# EAGLE library part STM32F405RGT6_BOTTOM (library MyCMOSsensor)
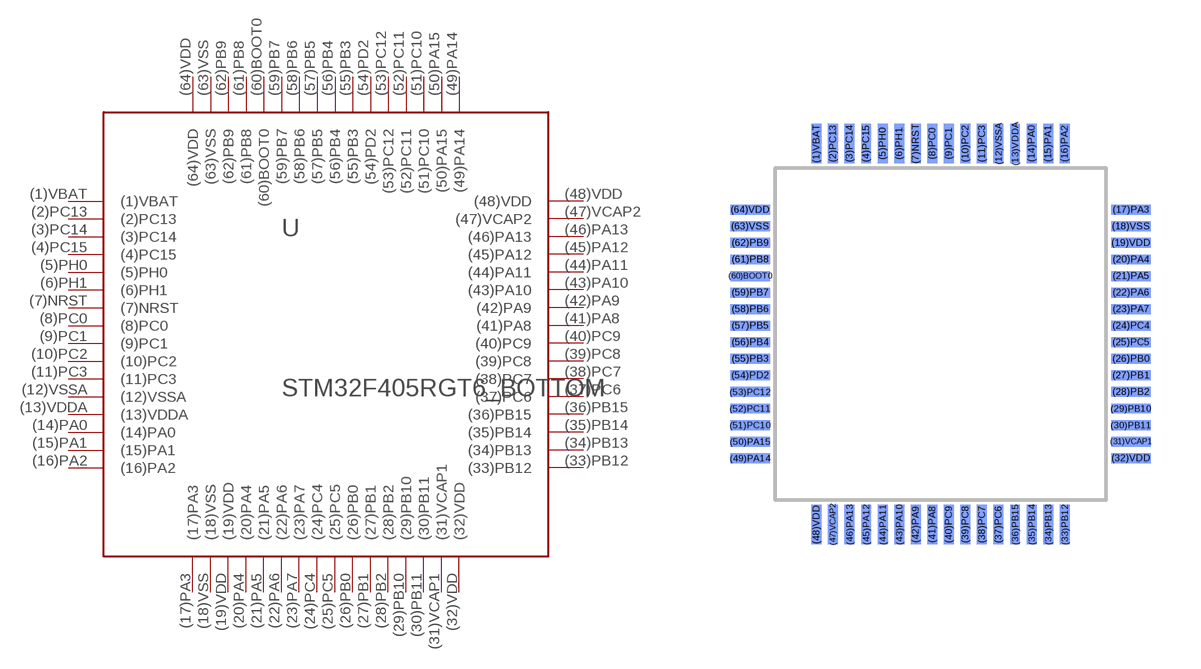
[diagram p2: symbol with the pads of STM32F405RGT6_BOTTOM; footprint STM32F405RGT6_BOTTOM]

Designator prefix -

## STM32F405RGT6_BOTTOM  [STM32F405RGT6_BOTTOM]
(1)VBAT  (1)VBAT
(2)PC13  (2)PC13
(3)PC14  (3)PC14
(4)PC15  (4)PC15
(5)PH0  (5)PH0
(6)PH1  (6)PH1
(7)NRST  (7)NRST
(8)PC0  (8)PC0
(9)PC1  (9)PC1
(10)PC2  (10)PC2
(11)PC3  (11)PC3
(12)VSSA  (12)VSSA
(13)VDDA  (13)VDDA
(14)PA0  (14)PA0
(15)PA1  (15)PA1
(16)PA2  (16)PA2
(17)PA3  (17)PA3
(18)VSS  (18)VSS
(19)VDD  (19)VDD
(20)PA4  (20)PA4
(21)PA5  (21)PA5
(22)PA6  (22)PA6
(23)PA7  (23)PA7
(24)PC4  (24)PC4
(25)PC5  (25)PC5
(26)PB0  (26)PB0
(27)PB1  (27)PB1
(28)PB2  (28)PB2
(29)PB10  (29)PB10
(30)PB11  (30)PB11
(31)VCAP1  (31)VCAP1
(32)VDD  (32)VDD
(33)PB12  (33)PB12
(34)PB13  (34)PB13
(35)PB14  (35)PB14
(36)PB15  (36)PB15
(37)PC6  (37)PC6
(38)PC7  (38)PC7
(39)PC8  (39)PC8
(40)PC9  (40)PC9
(41)PA8  (41)PA8
(42)PA9  (42)PA9
(43)PA10  (43)PA10
(44)PA11  (44)PA11
(45)PA12  (45)PA12
(46)PA13  (46)PA13
(47)VCAP2  (47)VCAP2
(48)VDD  (48)VDD
(49)PA14  (49)PA14
(50)PA15  (50)PA15
(51)PC10  (51)PC10
(52)PC11  (52)PC11
(53)PC12  (53)PC12
(54)PD2  (54)PD2
(55)PB3  (55)PB3
(56)PB4  (56)PB4
(57)PB5  (57)PB5
(58)PB6  (58)PB6
(59)PB7  (59)PB7
(60)BOOT0  (60)BOOT0
(61)PB8  (61)PB8
(62)PB9  (62)PB9
(63)VSS  (63)VSS
(64)VDD  (64)VDD

## Footprint STM32F405RGT6_BOTTOM (pad centres in mm)
smd 0.3 x 1.2 bottom: (1)VBAT -3.75,5.75; (2)PC13 -3.25,5.75; (3)PC14 -2.75,5.75; (4)PC15 -2.25,5.75; (5)PH0 -1.75,5.75; (6)PH1 -1.25,5.75; (7)NRST -0.75,5.75; (8)PC0 -0.25,5.75; (9)PC1 0.25,5.75; (10)PC2 0.75,5.75; (11)PC3 1.25,5.75; (12)VSSA 1.75,5.75; (13)VDDA 2.25,5.75; (14)PA0 2.75,5.75; (15)PA1 3.25,5.75; (16)PA2 3.75,5.75; (33)PB12 3.75,-5.75; (34)PB13 3.25,-5.75; (35)PB14 2.75,-5.75; (36)PB15 2.25,-5.75; (37)PC6 1.75,-5.75; (38)PC7 1.25,-5.75; (39)PC8 0.75,-5.75; (40)PC9 0.25,-5.75; (41)PA8 -0.25,-5.75; (42)PA9 -0.75,-5.75; (43)PA10 -1.25,-5.75; (44)PA11 -1.75,-5.75; (45)PA12 -2.25,-5.75; (46)PA13 -2.75,-5.75; (47)VCAP2 -3.25,-5.75; (48)VDD -3.75,-5.75
smd 1.2 x 0.3 bottom: (17)PA3 5.75,3.75; (18)VSS 5.75,3.25; (19)VDD 5.75,2.75; (20)PA4 5.75,2.25; (21)PA5 5.75,1.75; (22)PA6 5.75,1.25; (23)PA7 5.75,0.75; (24)PC4 5.75,0.25; (25)PC5 5.75,-0.25; (26)PB0 5.75,-0.75; (27)PB1 5.75,-1.25; (28)PB2 5.75,-1.75; (29)PB10 5.75,-2.25; (30)PB11 5.75,-2.75; (31)VCAP1 5.75,-3.25; (32)VDD 5.75,-3.75; (49)PA14 -5.75,-3.75; (50)PA15 -5.75,-3.25; (51)PC10 -5.75,-2.75; (52)PC11 -5.75,-2.25; (53)PC12 -5.75,-1.75; (54)PD2 -5.75,-1.25; (55)PB3 -5.75,-0.75; (56)PB4 -5.75,-0.25; (57)PB5 -5.75,0.25; (58)PB6 -5.75,0.75; (59)PB7 -5.75,1.25; (60)BOOT0 -5.75,1.75; (61)PB8 -5.75,2.25; (62)PB9 -5.75,2.75; (63)VSS -5.75,3.25; (64)VDD -5.75,3.75